# Altium schematic symbol library crw.SchLib: 7 symbols
Pins are listed as number, name and electrical type; pins without a type are passive.

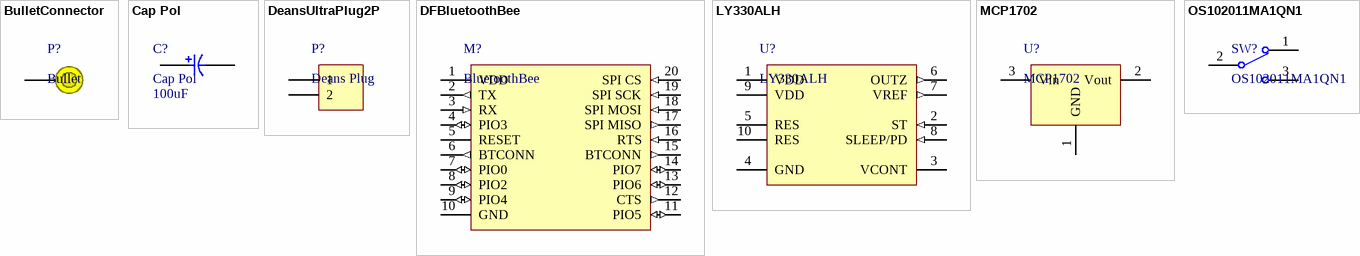
[diagram p0: symbols BulletConnector to OS102011MA1QN1]

## BulletConnector
designator P?, comment Bullet
3.5mm Plated Bullet Style Connector
pins: 1 (power)

## Cap Pol
designator C?  value 100uF
Polarized Capacitor
footprint WX Series Capacitor (6.3mm Body)
pins: 1 (power), 2 (power)

## DeansUltraPlug2P
designator P?, comment Deans Plug
Deans 2-pin Ultra Plug
pins: 1 (power), 2 (power)

## DFBluetoothBee
designator M?, comment BluetoothBee
DFRobot Bluetooth Bee Wireless Module
footprint XBee (XBee Module)
pins: 1 VDD (power), 2 TX (out), 3 RX (in), 4 PIO3 (io), 5 RESET (oc), 6 BTCONN (out), 7 PIO0 (io), 8 PIO2 (io), 9 PIO4 (io), 10 GND (power), 11 PIO5 (io), 12 CTS (out), 13 PIO6 (io), 14 PIO7 (io), 15 BTCONN (out), 16 RTS (in), 17 SPI MISO (out), 18 SPI MOSI (in), 19 SPI SCK (in), 20 SPI CS (in)

## LY330ALH
designator U?
MEMS motion sensor: high performance ±300 dps analog yaw-rate gyroscope
pins: 1 VDD (power), 2 ST (in), 3 VCONT, 4 GND (power), 5 RES, 6 OUTZ (out), 7 VREF (out), 8 SLEEP/PD (in), 9 VDD (power), 10 RES

## MCP1702
designator U?
2 uA Low Dropout Positive Voltage Regulator
footprint SO-G3 (SOT-23; 3 Leads; Body 3.0 x 2.6 mm, inc. leads (LxW max))
pins: 1 GND (power), 2 Vout (power), 3 Vin (power)

## OS102011MA1QN1
designator SW?
Miniature SPDT Slide Switch
footprint OS102011MA1QN1
pins: 1 (power), 2 (power), 3 (power)